# Altium schematic symbol library LED Board SCH Lib.SchLib: 3 symbols
Pins are listed as number, name and electrical type; pins without a type are passive.

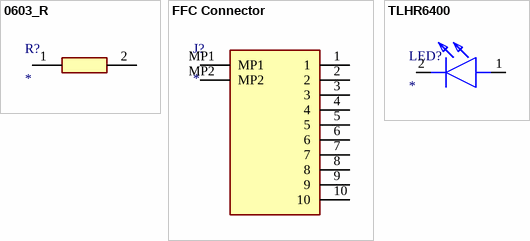
[diagram p0: symbols 0603_R to TLHR6400]

## 0603_R
designator R?
Resistor; Manufacturer_Name: Panasonic; Manufacturer_Part_Number: ERA-3KEB2403V; Datasheet Link: http://industrial.panasonic.com/cdbs/www-data/pdf/RDM0000/RDM0000C331.pdf; Height: 0.4mm
footprint ERA3KV_(0603)
pins: 1, 2

## FFC Connector
designator J?
Connector; Manufacturer_Name: Molex; Manufacturer_Part_Number: 52892-1033; Datasheet Link: https://componentsearchengine.com/Datasheets/2/52892-1033.pdf; Height: 2mm
footprint 528921033
pins: 1, 2, 3, 4, 5, 6, 7, 8, 9, 10, MP1, MP2

## TLHR6400
designator LED?
LED; Manufacturer_Name: Vishay; Manufacturer_Part_Number: TLHR6400; Description: Vishay TLHR6400 Red LED; Datasheet Link: https://www.vishay.com/docs/83219/tlhg640.pdf
footprint TLHR6400
pins: 1 A, 2 K